# Altium integrated library LED.IntLib: 2 symbols
Pins are listed as number, name and electrical type; pins without a type are passive.

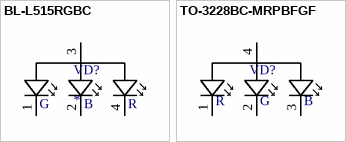
[diagram p0: symbols BL-L515RGBC to TO-3228BC-MRPBFGF]

## BL-L515RGBC
designator VD?
footprint BL-L515RGBC
pins: 1 R, 2 G, 3, 4 B

## TO-3228BC-MRPBFGF
designator VD?  (value not drawn)
footprint TO-3228BC-MRPBFGF
pins: 1 R, 2 G, 3 B, 4